# Altium schematic symbol library CEM-1201(42).SchLib: 1 symbol
Pins are listed as number, name and electrical type; pins without a type are passive.

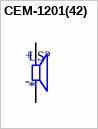
[diagram p0: symbol CEM-1201(42)]

## CEM-1201(42)
designator LS?
Audio Buzzer Magnetic 1Vo-p 2Vo-p 20mA 1.5Vo-p 85dBA Pin Through Hole Tray; MP: CEM-1201(42); Availability: Unavailable; Package: None; Value: *; Price: None
footprint CUI_CEM-1201(42)
pins: M, P
text: +; -